# Altium integrated library TLP-250.IntLib: 1 symbol
Pins are listed as number, name and electrical type; pins without a type are passive.

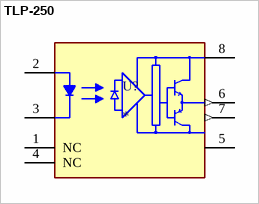
[diagram p0: symbol TLP-250]

## TLP-250
designator U?
MantÄ±k Ã‡Ä±kÄ±ÅŸlÄ± OptoizolatÃ¶r - Ä°tme-Ã‡ekme, Totem Kutup 3750Vrms 1 Kanal 40kV/Âµs CMTI 8-SMD; MF: Toshiba Semiconductor; MP: TLP250; Purchase-URL: https://pricing.snapeda.com/search/part/TLP250/?ref=eda; SnapEDA_Link: https://www.snapeda.com/parts/TLP250/Toshiba+Semiconductor+and+Storage/view-part/?ref=snap; Value: *; Package: DIP-8 Toshiba; Availability: In Stock; Price: None; Check_prices: https://www.snapeda.com/parts/TLP250/Toshiba+Semiconductor+and+Storage/view-part/?ref=eda
footprint DIP762W50P254L966H485Q8
pins: 1 NC, 2 ANODE, 3 CATHODE, 4 NC, 5 GND (power), 6 VO (out), 7 VO (out), 8 VCC (power)